# Altium footprint library breeze_design_library.PcbLib: 26 footprints (part 1 of 2)
Each footprint in its own frame and in the unit in brackets; x right, y up, seen from the top. Pads: shape width x height; smd on the part's side, far side on the other; paste and mask are expansions set on the pad; w line width, h text height; cw(c..) or ccw(c..) is an arc to the next point about the centre after c.
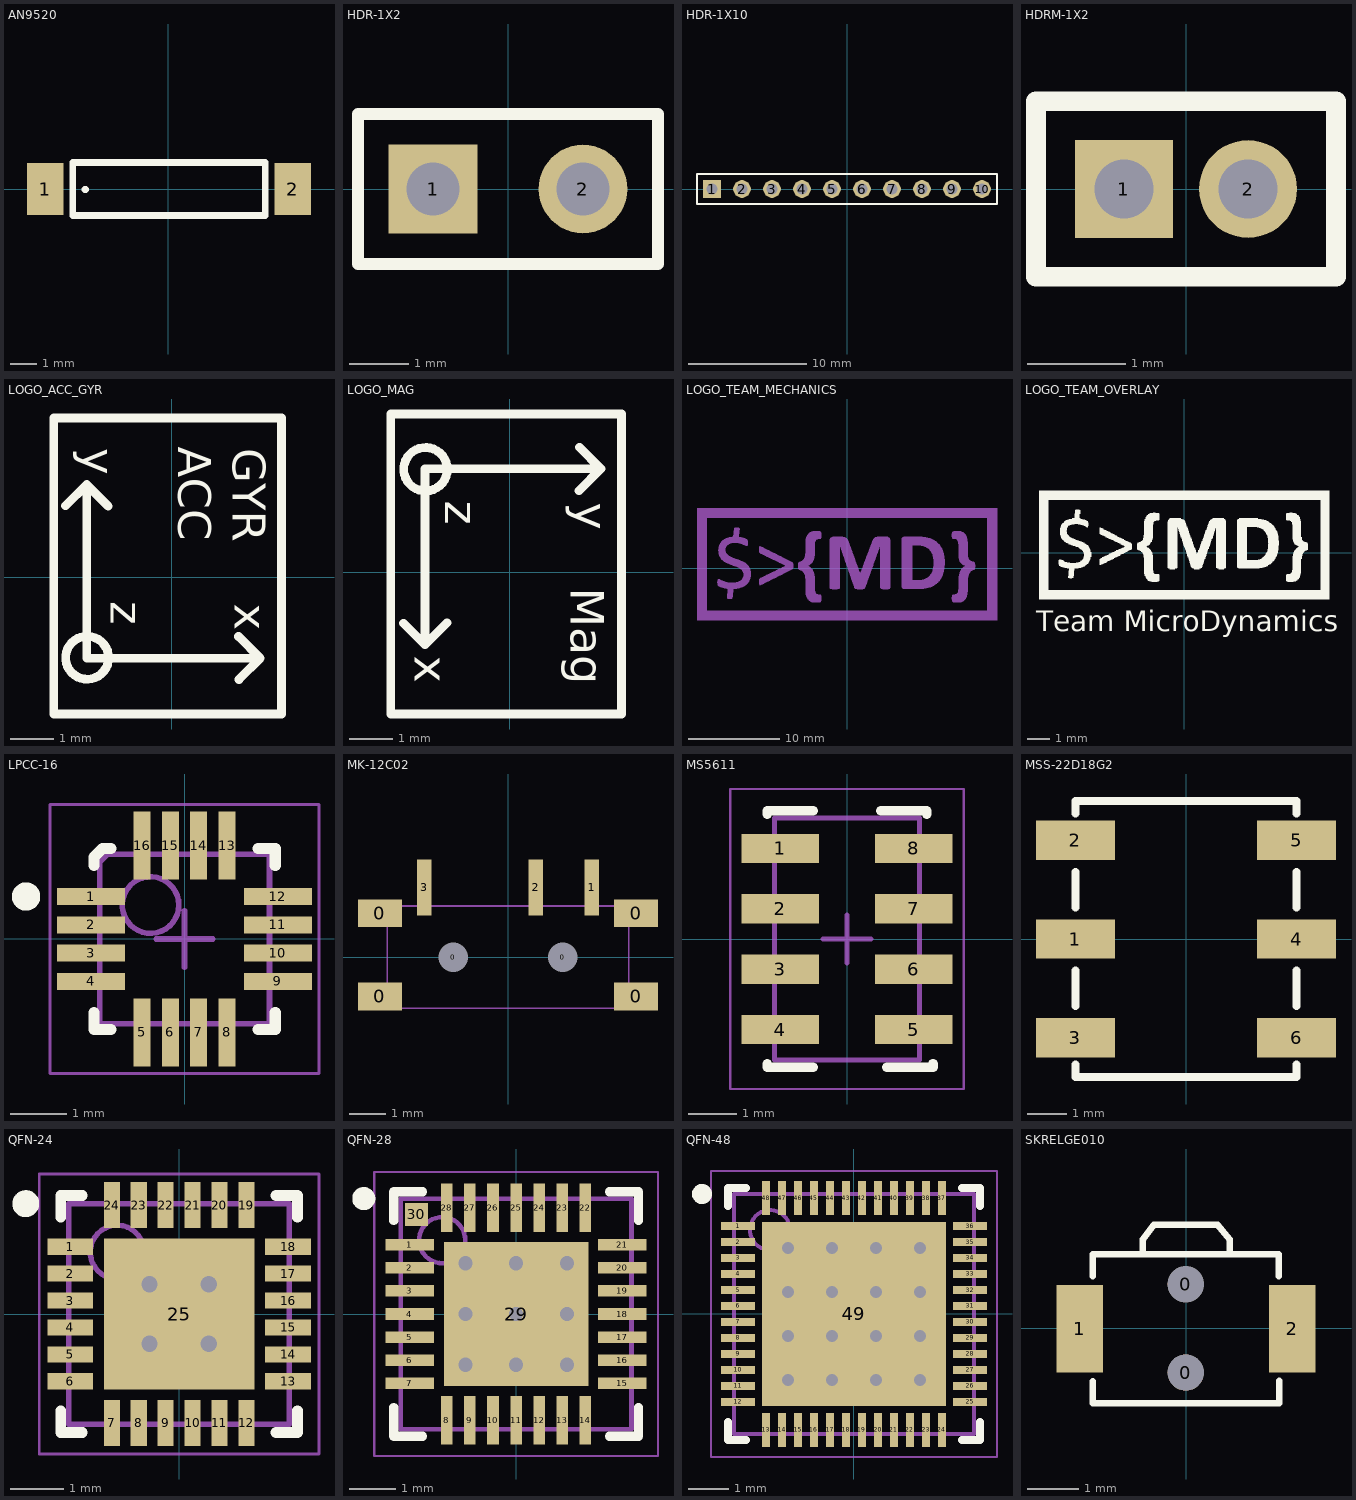
[diagram p0: the footprints below, top view; thin cyan lines are the x and y axes]

## AN9520 [mm] "AN9520"
pads (2):
  rect 1.4x2 smd: 1(-4.725,0) 2(4.775,0)
Top Overlay:
  lines w0.254: -3.203,-0.02 -3.173,-0.02 ; -3.658,-1.016 -3.658,1.016 3.708,1.016 3.708,-1.016 -3.658,-1.016

## HDR-1X2 [mm] "HDR-1X2"
pads (2):
  rect 1.5x1.5 hole 0.9: 1(-1.27,0)
  round 1.5 hole 0.9: 2(1.27,0)
Top Overlay:
  lines w0.2: -2.54,-1.27 -2.54,1.27 2.54,1.27 2.54,-1.27 -2.54,-1.27

## HDR-1X10 [mm] "HDR-1X10"
pads (10):
  rect 1.5x1.5 hole 0.9: 1(-11.43,0)
  round 1.5 hole 0.9: 2(-8.89,0) 3(-6.35,0) 4(-3.81,0) 5(-1.27,0) 6(1.27,0) 7(3.81,0) 8(6.35,0) 9(8.89,0) 10(11.43,0)
Top Overlay:
  lines w0.2: -12.7,-1.27 12.7,-1.27 12.7,1.27 -10.795,1.27 -12.7,1.27 -12.7,-1.27

## HDRM-1X2 [mm] "HDRM-1X2"
pads (2):
  rect 1x1 hole 0.6: 1(-0.635,0)
  round 1 hole 0.6: 2(0.635,0)
Top Overlay:
  lines w0.2: -1.535,-0.9 -1.535,0.9 1.535,0.9 1.535,-0.9 -1.535,-0.9

## LOGO_ACC_GYR [mm] "Orientation of Axes of MPU6050"
Top Overlay:
  circle w0.203: c-1.952,-1.856 r0.496
  lines w0.203: -2.452,1.654 -1.962,2.144 ; -1.462,1.644 -1.962,2.144 ; 1.548,-1.366 2.048,-1.866 ; 1.558,-2.356 2.048,-1.866 ; -1.962,2.144 -1.962,-1.866 2.048,-1.866 ; -2.722,-3.156 -2.722,3.684 2.538,3.684 2.538,-3.156 -2.722,-3.156
  text "z" at -1.412,-0.556 h0.76
  text "x" at 1.458,-0.606 h0.76
  text "ACC" at 0.148,3.014 h0.76
  text "GYR" at 1.418,2.984 h0.76
  text "y" at -2.052,2.984 h0.76

## LOGO_MAG [mm] "Orientation of Axes of HMC5883L"
Top Overlay:
  circle w0.2: c-1.919,2.351 r0.496
  lines w0.2: -2.419,-1.159 -1.929,-1.649 ; -1.429,-1.149 -1.929,-1.649 ; 1.581,1.861 2.081,2.361 ; 1.591,2.851 2.081,2.361 ; -1.929,-1.649 -1.929,2.361 2.081,2.361 ; -2.709,-3.229 -2.709,3.611 2.551,3.611 2.551,-3.229 -2.709,-3.229
  text "x" at -2.159,-1.905 h0.76
  text "z" at -1.466,1.634 h0.76
  text "Mag" at 1.391,-0.349 h0.76
  text "y" at 1.491,1.584 h0.76

## LOGO_TEAM_MECHANICS [mm] "Logo for Team MicroDynamics on mechanics layer"
Mechanical 16:
  drawing of 3147 lines, arcs and shapes, not listed

## LOGO_TEAM_OVERLAY [mm] "Logo for Team MicroDynamics on overlay layer"
Top Overlay:
  drawing of 1209 lines, arcs and shapes, not listed
  text "Team MicroDynamics" at -6.477,-3.429 h0.89

## LPCC-16 [mm] "LCC, 16-Pins, Body 3.00x3.00mmx0.90mm, Pitch 0.50mm, IPC Medium Density"
height 0.9
pads (16):
  rect 1.2x0.3 smd: 1(-1.65,0.75) 2(-1.65,0.25) 3(-1.65,-0.25) 4(-1.65,-0.75) 9(1.65,-0.75) 10(1.65,-0.25) 11(1.65,0.25) 12(1.65,0.75)
  rect 0.3x1.2 smd: 5(-0.75,-1.65) 6(-0.25,-1.65) 7(0.25,-1.65) 8(0.75,-1.65) 13(0.75,1.65) 14(0.25,1.65) 15(-0.25,1.65) 16(-0.75,1.65)
Top Overlay:
  circle w0.25: c-2.8,0.75 r0.125
  lines w0.2: -1.6,-1.3 -1.6,-1.6 -1.3,-1.6 ; -1.6,1.3 -1.6,1.45 -1.45,1.6 -1.3,1.6 ; 1.3,-1.6 1.6,-1.6 1.6,-1.3 ; 1.3,1.6 1.6,1.6 1.6,1.3
Mechanical 13:
  circle w0.1: c-0.6,0.6 r0.5
  lines w0.1: -1.5,-1.5 1.5,-1.5 1.5,1.5 -1.35,1.5 -1.5,1.35 -1.5,-1.5
Mechanical 15:
  lines w0.05: -2.375,-2.375 2.375,-2.375 2.375,2.375 -2.375,2.375 -2.375,-2.375
  lines w0.1: -0.5,0 0.5,0 ; 0,-0.5 0,0.5

## MK-12C02 [mm] "MK-12C02"
pads (9):
  rect 1.2x0.762 smd: 0(-3.5,-1.073) 0(-3.5,1.2) 0(3.5,1.2) 0(3.5,-1.073)
  round 0.254 hole 0.8: 0(-1.5,0) 0(1.5,0)
  rect 0.4x1.524 smd: 1(2.286,1.905) 2(0.762,1.905) 3(-2.286,1.905)
Mechanical 13:
  lines w0.051: -3.302,-1.397 3.302,-1.397 3.302,1.397 -3.302,1.397 -3.302,-1.397

## MS5611 [mm] "MS5611"
pads (8):
  rect 1.6x0.6 smd: 1(-1.377,1.875) 2(-1.377,0.625) 3(-1.377,-0.625) 4(-1.377,-1.875) 5(1.377,-1.875) 6(1.377,-0.625) 7(1.377,0.625) 8(1.377,1.875)
Top Overlay:
  lines w0.2: -1.65,-2.575 -1.65,-2.65 -0.7,-2.65 ; -1.65,2.575 -1.65,2.65 -0.7,2.65 ; 0.7,2.65 1.65,2.65 1.65,2.575 ; 0.827,-2.65 1.777,-2.65 1.777,-2.575
Mechanical 13:
  lines w0.1: -1.5,-2.5 1.5,-2.5 1.5,2.5 -1.5,2.5 -1.5,-2.5
Mechanical 15:
  lines w0.05: -2.413,-3.1 2.413,-3.1 2.413,3.1 -2.413,3.1 -2.413,-3.1
  lines w0.1: -0.5,0 0.5,0 ; 0,-0.5 0,0.5

## MSS-22D18G2 [mm] "MSS-22D18G2"
pads (6):
  rect 2x1 smd: 1(-2.8,0) 2(-2.8,2.5) 3(-2.8,-2.5) 4(2.8,0) 5(2.8,2.5) 6(2.8,-2.5)
Top Overlay:
  lines w0.203: -2.8,-3.175 -2.8,-3.5 2.8,-3.5 2.8,-3.175 ; -2.8,-1.7 -2.8,-0.8 ; -2.8,0.8 -2.8,1.7 ; -2.8,3.175 -2.8,3.5 2.8,3.5 2.8,3.175 ; 2.8,-1.7 2.8,-0.8 ; 2.8,0.8 2.8,1.7

## QFN-24 [mm] "QFN, 24-Leads, Body 4.00x4.00mm, Pitch 0.50mm, Thermal Pad 2.80x2.80mm, IPC Medium Density"
height 0.95
pads (25):
  rect 0.85x0.3 smd: 1(-2.025,1.25) 2(-2.025,0.75) 3(-2.025,0.25) 4(-2.025,-0.25) 5(-2.025,-0.75) 6(-2.025,-1.25) 13(2.025,-1.25) 14(2.025,-0.75) 15(2.025,-0.25) 16(2.025,0.25) 17(2.025,0.75) 18(2.025,1.25)
  rect 0.3x0.85 smd: 7(-1.25,-2.025) 8(-0.75,-2.025) 9(-0.25,-2.025) 10(0.25,-2.025) 11(0.75,-2.025) 12(1.25,-2.025) 19(1.25,2.025) 20(0.75,2.025) 21(0.25,2.025) 22(-0.25,2.025) 23(-0.75,2.025) 24(-1.25,2.025)
  rect 2.8x2.8 smd: 25(0,0)
via 0.55,-0.55 diameter 0.61 hole 0.305
via -0.55,-0.55 diameter 0.61 hole 0.305
via 0.55,0.55 diameter 0.61 hole 0.305
via -0.55,0.55 diameter 0.61 hole 0.305
Top Overlay:
  circle w0.25: c-2.85,2.05 r0.125
  lines w0.2: -2.2,-1.8 -2.2,-2.2 -1.8,-2.2 ; -2.2,1.8 -2.2,2.2 -1.8,2.2 ; 1.8,-2.2 2.2,-2.2 2.2,-1.8 ; 1.8,2.2 2.2,2.2 2.2,1.8
Mechanical 13:
  circle w0.1: c-1.15,1.15 r0.5
  lines w0.1: -2.05,-2.05 2.05,-2.05 2.05,2.05 -2.05,2.05 -2.05,-2.05
Mechanical 15:
  lines w0.05: -2.6,-2.6 2.6,-2.6 2.6,2.6 -2.6,2.6 -2.6,-2.6
  lines w0.1: -0.5,0 0.5,0 ; 0,-0.5 0,0.5

## QFN-28 [mm] "QFN, 28-Leads, Body 5.00x5.00mm, Pitch 0.50mm, Thermal Pad 3.13x3.13mm, IPC Medium Density"
height 1
pads (30):
  rect 1.05x0.25 smd: 1(-2.3,1.5) 2(-2.3,1) 3(-2.3,0.5) 4(-2.3,0) 5(-2.3,-0.5) 6(-2.3,-1) 7(-2.3,-1.5) 15(2.3,-1.5) 16(2.3,-1) 17(2.3,-0.5) 18(2.3,0) 19(2.3,0.5) 20(2.3,1) 21(2.3,1.5)
  rect 0.25x1.05 smd: 8(-1.5,-2.3) 9(-1,-2.3) 10(-0.5,-2.3) 11(0,-2.3) 12(0.5,-2.3) 13(1,-2.3) 14(1.5,-2.3) 22(1.5,2.3) 23(1,2.3) 24(0.5,2.3) 25(0,2.3) 26(-0.5,2.3) 27(-1,2.3) 28(-1.5,2.3)
  rect 3.13x3.13 smd: 29(0,0)
  rect 0.5x0.5 smd: 30(-2.159,2.159)
via -1.1,1.1 diameter 0.61 hole 0.305
via 0,1.1 diameter 0.61 hole 0.305
via 1.1,1.1 diameter 0.61 hole 0.305
via -1.1,0 diameter 0.61 hole 0.305
via 0,0 diameter 0.61 hole 0.305
via 1.1,0 diameter 0.61 hole 0.305
via -1.1,-1.1 diameter 0.61 hole 0.305
via 0,-1.1 diameter 0.61 hole 0.305
via 1.1,-1.1 diameter 0.61 hole 0.305
Top Overlay:
  circle w0.25: c-3.3,2.5 r0.125
  lines w0.2: -2.65,-2.025 -2.65,-2.65 -2.025,-2.65 ; -2.65,2.025 -2.65,2.65 -2.025,2.65 ; 2.025,-2.65 2.65,-2.65 2.65,-2.025 ; 2.025,2.65 2.65,2.65 2.65,2.025
Mechanical 13:
  circle w0.1: c-1.6,1.6 r0.5
  lines w0.1: -2.5,-2.5 -2.5,2.5 2.5,2.5 2.5,-2.5 -2.5,-2.5
Mechanical 15:
  lines w0.05: -3.075,-3.075 -3.075,3.075 3.075,3.075 3.075,-3.075 -3.075,-3.075
  lines w0.1: -0.5,0 0.5,0 ; 0,-0.5 0,0.5

## QFN-48 [mm] "QFN, 48-Leads, Body 6.00x6.00mm, Pitch 0.40mm, Thermal Pad 4.60x4.60mm, IPC Medium Density"
height 0.9
pads (49):
  rect 0.85x0.2 smd: 1(-2.9,2.2) 2(-2.9,1.8) 3(-2.9,1.4) 4(-2.9,1) 5(-2.9,0.6) 6(-2.9,0.2) 7(-2.9,-0.2) 8(-2.9,-0.6) 9(-2.9,-1) 10(-2.9,-1.4) 11(-2.9,-1.8) 12(-2.9,-2.2) 25(2.9,-2.2) 26(2.9,-1.8) 27(2.9,-1.4) 28(2.9,-1) 29(2.9,-0.6) 30(2.9,-0.2) 31(2.9,0.2) 32(2.9,0.6) 33(2.9,1) 34(2.9,1.4) 35(2.9,1.8) 36(2.9,2.2)
  rect 0.2x0.85 smd: 13(-2.2,-2.9) 14(-1.8,-2.9) 15(-1.4,-2.9) 16(-1,-2.9) 17(-0.6,-2.9) 18(-0.2,-2.9) 19(0.2,-2.9) 20(0.6,-2.9) 21(1,-2.9) 22(1.4,-2.9) 23(1.8,-2.9) 24(2.2,-2.9) 37(2.2,2.9) 38(1.8,2.9) 39(1.4,2.9) 40(1,2.9) 41(0.6,2.9) 42(0.2,2.9) 43(-0.2,2.9) 44(-0.6,2.9) 45(-1,2.9) 46(-1.4,2.9) 47(-1.8,2.9) 48(-2.2,2.9)
  rect 4.6x4.6 smd: 49(0,0)
via -1.65,1.65 diameter 0.61 hole 0.305
via -0.55,1.65 diameter 0.61 hole 0.305
via 0.55,1.65 diameter 0.61 hole 0.305
via 1.65,1.65 diameter 0.61 hole 0.305
via -1.65,0.55 diameter 0.61 hole 0.305
via -0.55,0.55 diameter 0.61 hole 0.305
via 0.55,0.55 diameter 0.61 hole 0.305
via 1.65,0.55 diameter 0.61 hole 0.305
via -1.65,-0.55 diameter 0.61 hole 0.305
via -0.55,-0.55 diameter 0.61 hole 0.305
via 0.55,-0.55 diameter 0.61 hole 0.305
via 1.65,-0.55 diameter 0.61 hole 0.305
via -1.65,-1.65 diameter 0.61 hole 0.305
via -0.55,-1.65 diameter 0.61 hole 0.305
via 0.55,-1.65 diameter 0.61 hole 0.305
via 1.65,-1.65 diameter 0.61 hole 0.305
Top Overlay:
  circle w0.25: c-3.8,3 r0.125
  lines w0.2: -3.15,-2.7 -3.15,-3.15 -2.7,-3.15 ; -3.15,2.7 -3.15,3.15 -2.7,3.15 ; 2.7,-3.15 3.15,-3.15 3.15,-2.7 ; 2.7,3.15 3.15,3.15 3.15,2.7
Mechanical 13:
  circle w0.1: c-2.1,2.1 r0.5
  lines w0.1: -3,-3 -3,3 3,3 3,-3 -3,-3
Mechanical 15:
  lines w0.05: -3.575,-3.575 -3.575,3.575 3.575,3.575 3.575,-3.575 -3.575,-3.575
  lines w0.1: -0.5,0 0.5,0 ; 0,-0.5 0,0.5

## SKRELGE010 [mm] "SKRELGE010"
pads (4):
  round 0.7 hole 0.7: 0(-0.005,0.855) 0(-0.005,-0.855)
  rect 0.9x1.7 smd: 1(-2.055,-0.005) 2(2.055,-0.005)
Top Overlay:
  lines w0.025: -1.805,1.435 -0.905,1.435 ; -0.835,1.435 0.835,1.435 ; -0.835,1.715 -0.835,1.725 ; 0.495,1.435 0.845,1.435 ; 1.795,-1.445 1.805,-1.445 ; 0.845,1.725 0.845,1.725
  lines w0.127: -1.805,-1.021 -1.805,-1.445 1.795,-1.445 ; -1.805,1.011 -1.805,1.435 1.795,1.435 1.795,1.016 ; -0.835,1.435 -0.835,1.725 -0.625,2.005 0.615,2.005 0.845,1.725 0.845,1.435 ; 1.805,-1.445 1.805,-1.016